# Altium footprint library HANDS-FREE-PCBLIB-V2.0.PcbLib: 236 footprints (part 11 of 16)
Each footprint in its own frame and in the unit in brackets; x right, y up, seen from the top. Pads: shape width x height; smd on the part's side, far side on the other; paste and mask are expansions set on the pad; w line width, h text height; cw(c..) or ccw(c..) is an arc to the next point about the centre after c.
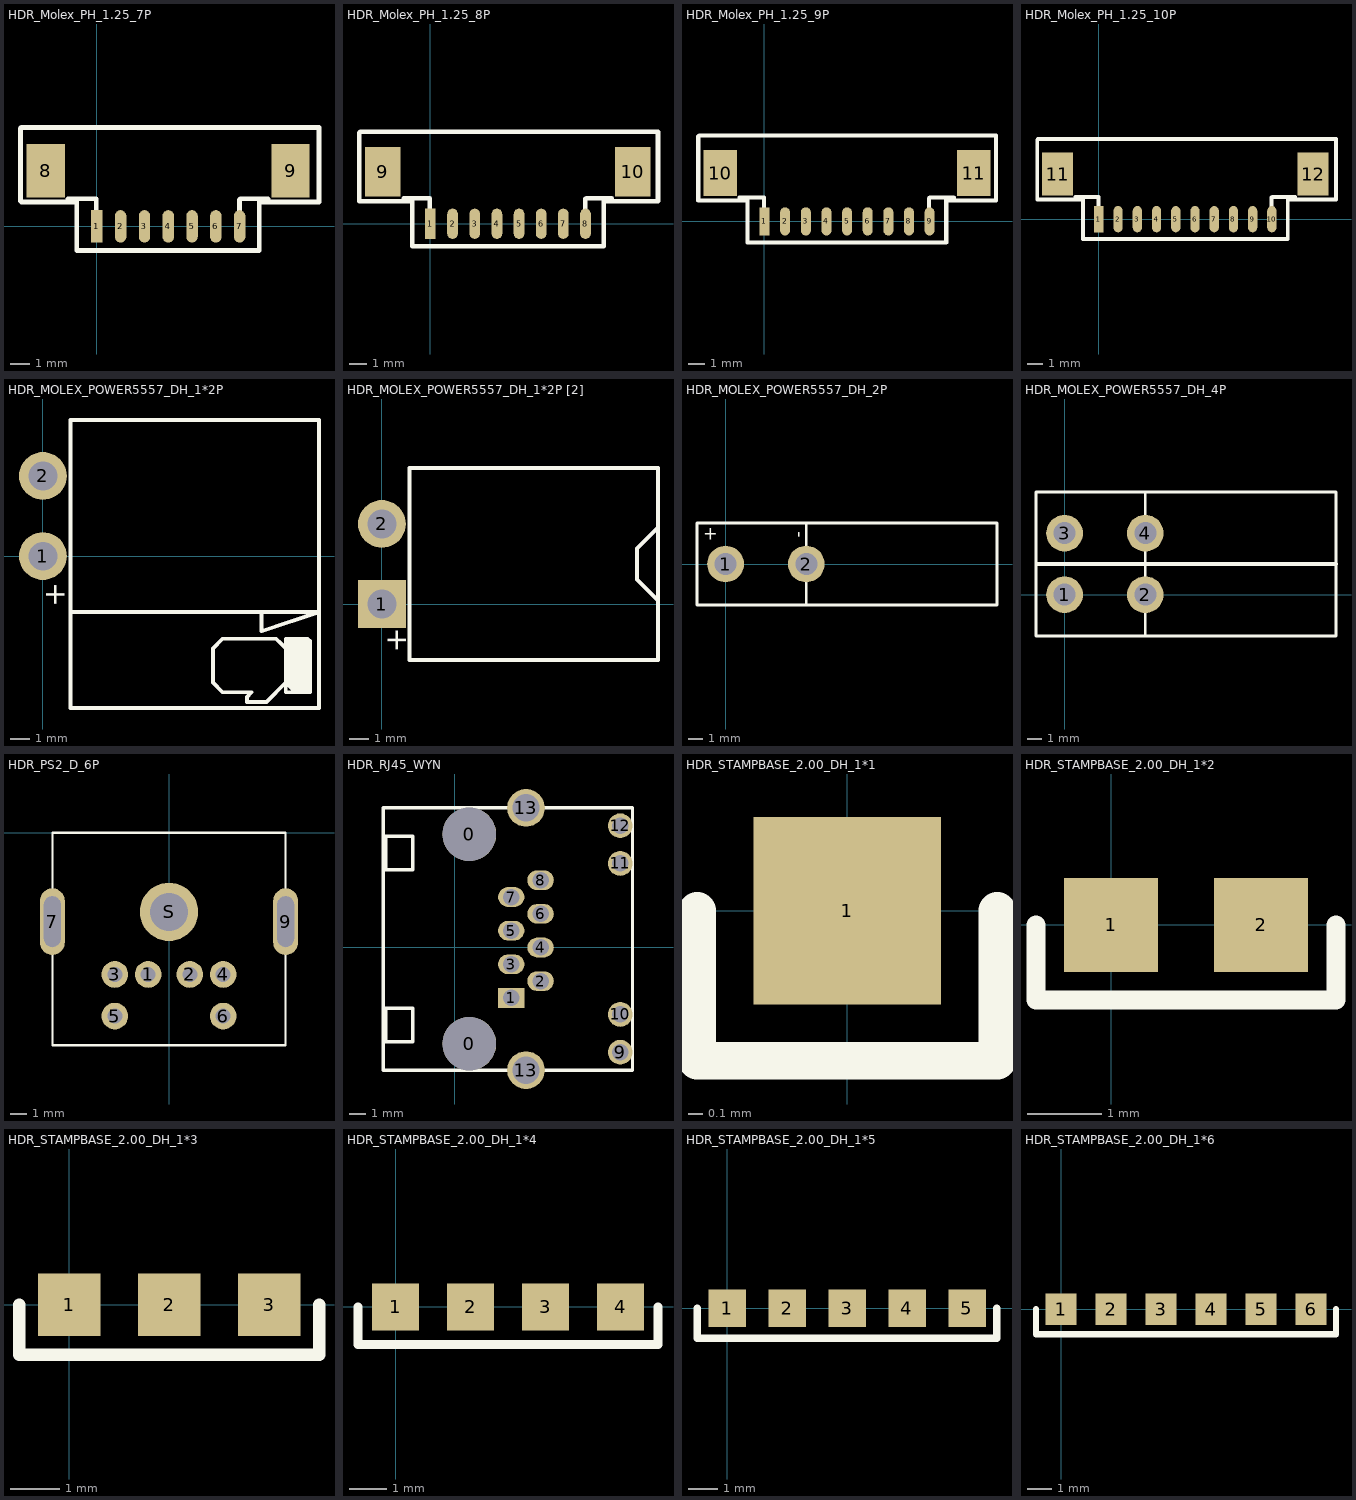
[diagram p10: the footprints below, top view; thin cyan lines are the x and y axes]

## HDR_Molex_PH_1.25_7P [mm]
pads (9):
  rect 0.6x1.7 smd: 1(0,0)
  oval 0.6x1.7 smd: 2(1.25,0) 3(2.5,0) 4(3.745,0) 5(4.989,0) 6(6.234,0) 7(7.478,0)
  rect 2x2.8 smd: 8(-2.667,2.921) 9(10.145,2.921)
Top Overlay:
  lines w0.254: -3.988,1.321 -3.988,5.131 -3.937,5.182 7.722,5.182 11.633,5.182 11.633,1.27 8.509,1.27 8.509,-1.27 -1.041,-1.27 -1.041,1.27 -3.937,1.27 ; -1.499,1.448 -0.051,1.448 ; -0.025,0.051 -0.025,1.448 ; 7.468,0 7.468,1.397 7.518,1.448 8.966,1.448

## HDR_Molex_PH_1.25_8P [mm]
pads (10):
  rect 0.6x1.7 smd: 1(0,0)
  oval 0.6x1.7 smd: 2(1.25,0) 3(2.5,0) 4(3.745,0) 5(4.989,0) 6(6.234,0) 7(7.478,0) 8(8.723,0)
  rect 2x2.8 smd: 9(-2.667,2.921) 10(11.39,2.921)
Top Overlay:
  lines w0.254: -1.499,1.448 -0.051,1.448 ; -0.025,0.051 -0.025,1.448 ; 8.712,0 8.712,1.397 8.763,1.448 10.211,1.448 ; 12.725,1.27 9.754,1.27 9.754,-1.27 -1.016,-1.27 -1.016,1.27 -3.988,1.27 -3.988,5.131 -3.937,5.182 7.722,5.182 12.802,5.182 12.802,1.27

## HDR_Molex_PH_1.25_9P [mm]
pads (11):
  rect 0.6x1.7 smd: 1(0,0)
  oval 0.6x1.7 smd: 2(1.25,0) 3(2.5,0) 4(3.745,0) 5(4.989,0) 6(6.234,0) 7(7.478,0) 8(8.723,0) 9(9.968,0)
  rect 2x2.8 smd: 10(-2.667,2.921) 11(12.635,2.921)
Top Overlay:
  lines w0.254: -1.499,1.448 -0.051,1.448 ; -0.025,0.051 -0.025,1.448 ; 9.931,0 9.931,1.397 9.982,1.448 11.43,1.448 ; 13.945,1.27 10.973,1.27 10.973,-1.27 -1.016,-1.27 -1.016,1.27 -3.988,1.27 -3.988,5.131 -3.937,5.182 7.722,5.182 13.97,5.182 13.97,1.27

## HDR_Molex_PH_1.25_10P [mm]
pads (12):
  rect 0.6x1.7 smd: 1(0,0)
  oval 0.6x1.7 smd: 2(1.25,0) 3(2.5,0) 4(3.745,0) 5(4.989,0) 6(6.234,0) 7(7.478,0) 8(8.723,0) 9(9.968,0) 10(11.212,0)
  rect 2x2.8 smd: 11(-2.667,2.921) 12(13.879,2.921)
Top Overlay:
  lines w0.254: -1.499,1.448 -0.051,1.448 ; -0.025,0.051 -0.025,1.448 ; 11.201,0 11.201,1.397 11.252,1.448 12.7,1.448 ; -3.988,1.27 -3.988,5.131 -3.937,5.182 7.722,5.182 15.367,5.182 15.367,1.27 12.243,1.27 12.243,-1.27 -1.016,-1.27 -1.016,1.27 -3.988,1.27

## HDR_MOLEX_POWER5557_DH_1*2P [mm]
pads (2):
  round 2.5 hole 1.5: 1(0,0) 2(0,4.191)
Top Overlay:
  region: 12.7,-4.318 13.843,-4.318 13.97,-4.445 13.97,-7.112 13.208,-7.112 12.7,-6.604
  lines w0.2: 11.43,-2.921 11.43,-3.931 14.436,-2.921 ; 13.208,-7.118 12.7,-6.61 ; 1.436,-2.921 14.436,-2.921 ; 1.436,-2.921 1.436,7.112 14.436,7.112 14.436,-2.921 ; 1.436,-2.921 1.436,-7.938 14.436,-7.938 14.436,-2.921 ; 12.7,-6.61 11.684,-7.626 10.668,-7.626 10.668,-7.372 10.922,-7.118 9.398,-7.118 8.89,-6.61 8.89,-4.832 9.398,-4.324 11.176,-4.324 11.684,-4.324 12.192,-4.324 12.446,-4.578 12.7,-4.832 ; 12.7,-6.61 12.7,-4.832 ; 12.7,-6.61 12.7,-7.118 13.97,-7.118 13.97,-4.445 13.849,-4.324 12.7,-4.324 12.7,-4.832
  text "+" at 1.143,-2.667 h1.14

## HDR_MOLEX_POWER5557_DH_1*2P [2] [mm]
pads (2):
  rect 2.5x2.5 hole 1.5: 1(0,0)
  round 2.5 hole 1.5: 2(0,4.191)
Top Overlay:
  lines w0.2: 1.436,-2.921 14.436,-2.921 14.436,7.112 1.436,7.112 1.436,-2.921
  lines w0.203: 14.436,0.191 13.335,1.292 13.335,2.899 14.436,4
  text "+" at 1.27,-2.54 h1.14

## HDR_MOLEX_POWER5557_DH_2P [mm]
pads (2):
  round 2.5 hole 1.5: 1(0,0) 2(5.5,0)
Top Overlay:
  lines w0.2: 5.5,-2.8 -1.941,-2.8 -1.947,-2.794 -1.947,2.8 5.5,2.8 ; 5.5,-2.8 5.5,2.8 ; 5.5,-2.8 18.5,-2.8 18.5,2.8 5.5,2.8
  text "-" at 5.334,1.778 h0.87
  text "+" at -1.524,1.651 h0.87
Bottom Overlay:
  text "-" at 3.937,-0.254 h0.87
  text "+" at 2.286,-0.254 h0.87

## HDR_MOLEX_POWER5557_DH_4P [mm]
pads (4):
  round 2.5 hole 1.5: 1(0,0) 2(5.5,0) 3(0,4.191) 4(5.5,4.191)
Top Overlay:
  lines w0.2: 5.5,-2.8 5.5,6.985 ; 5.5,-2.8 -1.941,-2.8 -1.947,-2.794 -1.947,6.985 5.5,6.985 ; 5.5,-2.8 18.5,-2.8 18.5,6.985 5.5,6.985
  lines w0.254: -1.905,2.095 18.5,2.095

## HDR_PS2_D_6P [mm]
pads (9):
  round 1.6 hole 0.9: 1(-1.25,-8.5) 2(1.25,-8.5) 3(-3.25,-8.5) 4(3.25,-8.5) 5(-3.25,-11) 6(3.25,-11)
  oval 1.5x4 hole 1 slot 3.048 at 90 deg: 7(-7,-5.334) 9(7,-5.334)
  round 3.5 hole 2.3: S(0,-4.75)
Top Overlay:
  lines w0.127: -7,-12.75 -7,0 7,0 7,-12.75 -7,-12.75

## HDR_RJ45_WYN [mm]
height 1.1
pads (16):
  round 3.25 hole 3.25: 0(0.889,-5.845) 0(0.889,6.855)
  rect 1.6x1.2 hole 1: 1(3.425,-3.07)
  oval 1.6x1.2 hole 1: 2(5.205,-2.05) 3(3.425,-1.03) 4(5.205,-0.01) 5(3.425,1.01) 6(5.205,2.03) 7(3.425,3.05) 8(5.205,4.07)
  round 1.5 hole 1: 9(10.033,-6.357) 10(10.033,-4.067) 11(10.033,5.083) 12(10.033,7.373)
  round 2.286 hole 1.651: 13(4.318,-7.445) 13(4.318,8.455)
Top Overlay:
  lines w0.203: 10.009,-5.845 10.033,-5.845 ; -4.325,-7.445 -4.325,0.505 -4.325,8.455 10.775,8.455 10.775,-7.445 -4.325,-7.445 ; -4.191,-5.721 -2.54,-5.721 -2.54,-3.689 -4.191,-3.689 -4.191,-5.721 ; -4.191,4.699 -4.191,6.731 -2.54,6.731 -2.54,4.699 -4.191,4.699

## HDR_STAMPBASE_2.00_DH_1*1 [mil]
pads (1):
  rect 50x50 smd: 1(0,0)
Top Overlay:
  lines w10: -40,0 -40,-40 40,-40 40,0

## HDR_STAMPBASE_2.00_DH_1*2 [mil]
pads (2):
  rect 50x50 smd: 1(0,0) 2(80,0)
Top Overlay:
  lines w10: -40,0 -40,-40 120,-40 120,0

## HDR_STAMPBASE_2.00_DH_1*3 [mil]
pads (3):
  rect 50x50 smd: 1(0,0) 2(80,0) 3(160,0)
Top Overlay:
  lines w10: -40,0 -40,-40 200,-40 200,0

## HDR_STAMPBASE_2.00_DH_1*4 [mil]
pads (4):
  rect 50x50 smd: 1(0,0) 2(80,0) 3(160,0) 4(240,0)
Top Overlay:
  lines w10: -40,0 -40,-40 280,-40 280,0

## HDR_STAMPBASE_2.00_DH_1*5 [mil]
pads (5):
  rect 50x50 smd: 1(0,0) 2(80,0) 3(160,0) 4(240,0) 5(320,0)
Top Overlay:
  lines w10: -40,0 -40,-40 360,-40 360,0

## HDR_STAMPBASE_2.00_DH_1*6 [mil]
pads (6):
  rect 50x50 smd: 1(0,0) 2(80,0) 3(160,0) 4(240,0) 5(320,0) 6(400,0)
Top Overlay:
  lines w10: -40,0 -40,-40 440,-40 440,0